# EAGLE library part TPS63700 (library Public)
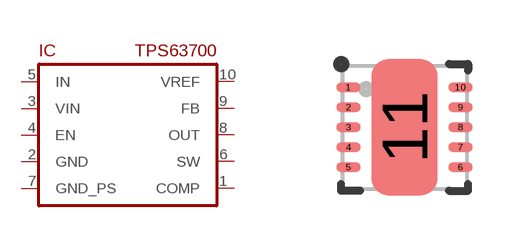
[diagram p157: symbol with the pads of VSON10; footprint VSON10]

Designator prefix IC

## TPS63700  [VSON10]
1  COMP
2  GND
3  VIN
4  EN
5  IN
6  SW
7  GND_PS
8  OUT
9  FB
10  VREF

## Footprint VSON10 (pad centres in mm)
smd 0.6 x 0.24: 1 -1.4,1; 2 -1.4,0.5; 3 -1.4,0; 4 -1.4,-0.5; 5 -1.4,-1; 6 1.4,-1; 7 1.4,-0.5; 8 1.4,0; 9 1.4,0.5; 10 1.4,1
smd 1.65 x 3.4: 11 0,0